# Altium schematic symbol library Schlib1.SchLib: 16 symbols
Pins are listed as number, name and electrical type; pins without a type are passive.

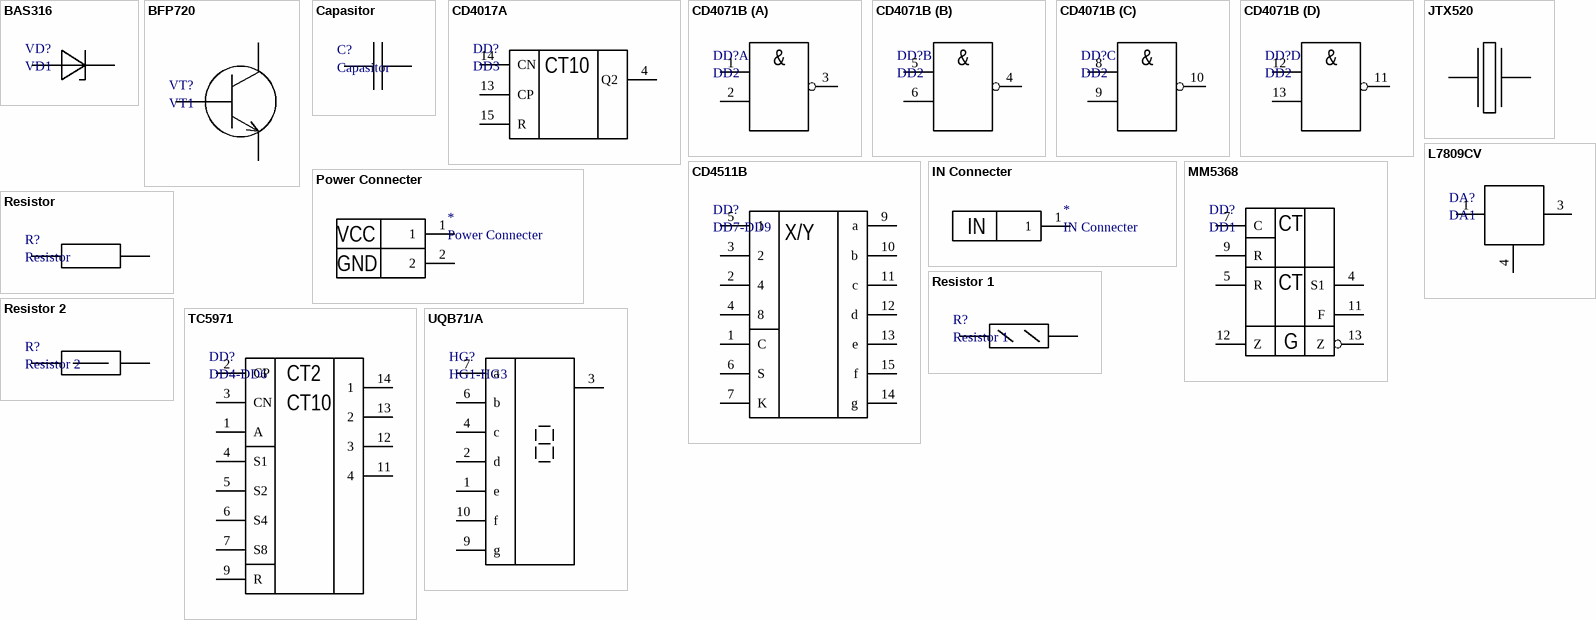
[diagram p0: symbols BAS316 to UQB71/A]

## BAS316
designator VD?, comment VD1
DIODE SMD 5% 1/16W 0805; Manufacturer: *
footprint BAS316 (SODFL, 2-Leads, Body 1,25x2,50mm, IPC Medium Density)
pins: 1, 2

## BFP720
designator VT?, comment VT1
BFP720; Manufacturer: Infineon Technologies
footprint BFP720 (SOT343, 4-Leads, Body 2,00x2,10mm, Pitch 1,30mm, IPC Medium Density)
pins: 1 0, 3 2, 4 1

## Capasitor
designator C?
CAP SMD 0 FARAD 5% 1/16W 0805; Value: 0; Manufacturer: *
footprint CAPASITOR
pins: 0, 1

## CD4017A
designator DD?, comment DD3
CD4017A; Manufacturer: RCA Solid State
footprint CD4017A (TSOP, 16-Leads, Body 5,00x4,40mm, Pitch 0,65mm, IPC Medium Density)
pins: 4 Q2, 8 GND hidden to GND, 13 CP, 14 CN, 15 R, 16 VCC hidden to VCC
text: CT10

## CD4071B
designator DD?, comment DD2
CD4071B; Manufacturer: Texas Instruments
footprint CD4071B (TSOP, 14-Leads, Body 5,00x4,40mm, Pitch 0,65mm, IPC Medium Density)
part A pins: 1, 2, 3
part B pins: 4, 5, 6
part C pins: 8, 9, 10
part D pins: 7 GND hidden to GND, 11, 12, 13, 14 VCC hidden to VCC
part A text: &
part B text: &
part C text: &
part D text: &

## CD4511B
designator DD?, comment DD7-DD9
CD4511B; Manufacturer: Texas Instruments
footprint CD4511B (TSOP, 16-Leads, Body 5,00x4,40mm, Pitch 0,65mm, IPC Medium Density)
pins: 1 C, 2 4, 3 2, 4 8, 5 1, 6 S, 7 K, 8 GND hidden to GND, 9 a, 10 b, 11 c, 12 d, 13 e, 14 g, 15 f, 16 VCC hidden to VCC
text: X/Y

## IN Connecter
designator *
footprint IN Connecter
pins: 1
text: IN

## JTX520
designator ZQ?, comment ZQ1  (value not drawn)
QUARTZ  1/16W 0805; Manufacturer: *
footprint JTX520 (DFN, 2-Leads, Body 1,90x4,80mm, Pitch 4,00mm, IPC Medium Density)
pins: 1 0, 2 1

## L7809CV
designator DA?, comment DA1
L7809CV; Manufacturer: Fantasy Electronics
footprint L7809CV (D2-PAK, 3-Pads, Body 7,77x8,48mm (max), IPC Medium Density)
pins: 1 17, 3 2, 4 8

## MM5368
designator DD?, comment DD1
MM5368; Manufacturer: National Semiconductor
footprint MM5368 (TSOP, 16-Leads, Body 5,00x4,40mm, Pitch 0,65mm, IPC Medium Density)
pins: 4 S1, 5 R, 7 C, 8 GND hidden to GND, 9 R, 11 F, 12 Z, 13 Z, 16 VCC hidden to VCC
text: CT; G

## Power Connecter
designator *
footprint Power Connecter
pins: 1, 2
text: VCC; GND

## Resistor
designator R?
RES SMD 10K OHM 5% 1/16W 0805; Value: 10; Manufacturer: *
pins: 0, 1

## Resistor 1
designator R?
RES SMD 10K OHM 5% 1/16W 0805; Value: 10; Manufacturer: *
footprint Resistor 1
pins: 0, 1

## Resistor 2
designator R?
RES SMD 10K OHM 5% 1/16W 0805; Value: 10; Manufacturer: *
footprint Resistor 2
pins: 0, 1

## TC5971
designator DD?, comment DD4-DD6
TC5971; Manufacturer: *
footprint TC5971 (SOP, 16-Leads, Body 19,80x6,40mm, Pitch 2,54mm, IPC Medium Density)
pins: 1 A, 2 CP, 3 CN, 4 S1, 5 S2, 6 S4, 7 S8, 8 GND hidden to GND, 9 R, 11 4, 12 3, 13 2, 14 1, 16 VCC hidden to VCC
text: CT2; CT10

## UQB71/A
designator HG?, comment HG1-HG3
UQB71/A; Manufacturer: *
footprint UQB71/A
pins: 1 e, 2 d, 3, 4 c, 05 h hidden to GND, 6 b, 7 a, 9 g, 10 f